# EAGLE library part H2_SENSOR (library mbed-microcontroller)
Figaro Gas Sensor TGS 800 Conrad 183377 - 62 CO Methan Isobutan Hydrogen Ethanol H2
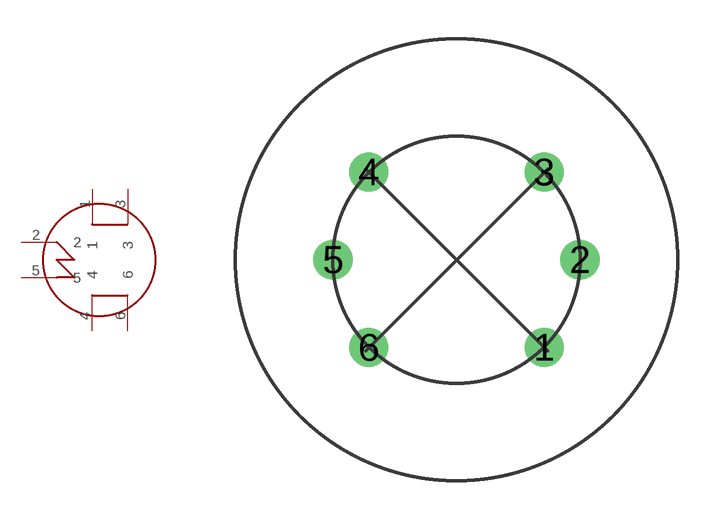
[diagram p6: symbol with the pads of H2_SENSOR; footprint H2_SENSOR]

Designator prefix -

## H2_SENSOR  [H2_SENSOR]
1  1
2  2
3  3
4  4
5  5
6  6

## Footprint H2_SENSOR (pad centres in mm)
drill 1: 1 3.375,-3.375; 2 4.75,0; 3 3.375,3.375; 4 -3.375,3.375; 5 -4.75,0; 6 -3.375,-3.375